# EAGLE library part MOSFET-IRFHS8242 (library Raj)
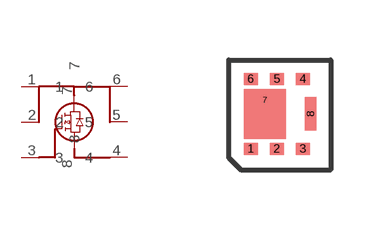
[diagram p1: symbol with the pads of PQFN2X2; footprint PQFN2X2]

Designator prefix Q

## MOSFET-IRFHS8242  [PQFN2X2]
1  1  pwr
2  2  pwr
3  3  in
4  4  pwr
5  5  pwr
6  6  pwr
7  7  pwr
8  8  pwr

## Footprint PQFN2X2 (pad centres in mm)
smd 0.35 x 0.3: 1 -0.65,-0.88; 2 0,-0.88; 3 0.65,-0.88; 4 0.65,0.87; 5 0,0.87; 6 -0.65,0.87
smd 0.01 x 0.01: 7 -0.3,0.35
smd 0.28 x 0.83: 8 0.85,0